# Altium schematic symbol library SamacSys.SchLib: 3 symbols
Pins are listed as number, name and electrical type; pins without a type are passive.

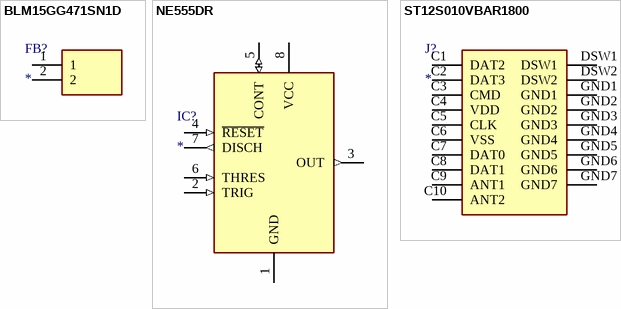
[diagram p0: symbols BLM15GG471SN1D to ST12S010VBAR1800]

## BLM15GG471SN1D
designator FB?
Ferrite Bead; Manufacturer_Name: Murata Electronics; Manufacturer_Part_Number: BLM15GG471SN1D; Description: BLM15_N1D Series EMI Suppression Filter 470+/-25% at 100MHz 200mA @85; Datasheet Link: http://www.murata.com/~/media/webrenewal/support/library/catalog/products/emc/emifil/c31e.ashx?la=en-gb; Height: 0.55mm; Mouser Part Number: 81-BLM15GG471SN1D; Mouser Price/Stock: https://www.mouser.co.uk/ProductDetail/Murata-Electronics/BLM15GG471SN1D?qs=%2F%252BYoplLUB5ib%252Bn0yTi8nAA%3D%3D; Arrow Part Number: BLM15GG471SN1D; Arrow Price/Stock: https://www.arrow.com/en/products/blm15gg471sn1d/murata-manufacturing?region=nac
footprint NFZ15SG152SN10B
pins: 1, 2

## NE555DR
designator IC?
Integrated Circuit; Manufacturer_Name: Texas Instruments; Manufacturer_Part_Number: NE555DR; Datasheet Link: http://www.ti.com/lit/ds/symlink/ne555.pdf; Height: 1.75mm; Mouser Part Number: 595-NE555DR; Mouser Price/Stock: https://www.mouser.com/Search/Refine.aspx?Keyword=595-NE555DR; RS Part Number: 1218414; RS Price/Stock: http://uk.rs-online.com/web/p/products/1218414
footprint SOIC127P600X175-8N
pins: 1 GND (power), 2 TRIG (in), 3 OUT (out), 4 ~{RESET} (in), 5 CONT (io), 6 THRES (in), 7 DISCH (out), 8 VCC (power)

## ST12S010VBAR1800
designator J?
Connector; Manufacturer_Name: JAE Electronics; Manufacturer_Part_Number: ST12S010VBAR1800; Datasheet Link: https://datasheet.datasheetarchive.com/originals/distributors/DKDS-39/7509.pdf; Height: 1.5mm; Mouser Part Number: 656-ST12S010VBAR1800; Mouser Price/Stock: https://www.mouser.co.uk/ProductDetail/JAE-Electronics/ST12S010VBAR1800?qs=XFmntM7Yc9fzgc0FX4vJAg%3D%3D
footprint ST12S010VBAR1800
pins: C1 DAT2, C2 DAT3, C3 CMD, C4 VDD, C5 CLK, C6 VSS, C7 DAT0, C8 DAT1, C9 ANT1, C10 ANT2, DSW1, DSW2, GND1, GND2, GND3, GND4, GND5, GND6, GND7